# EAGLE library part 6-POS-SCREW-TERM-PT-3.5MM (library myhvac)
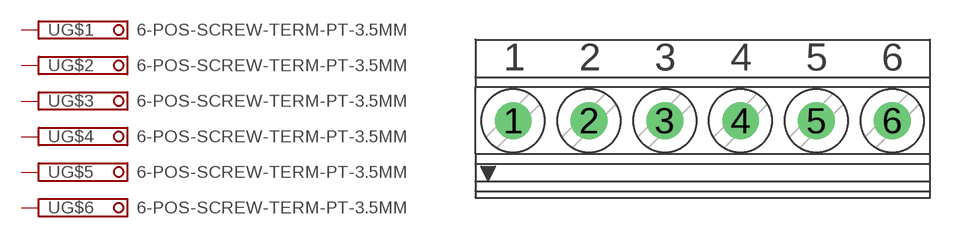
[diagram p6: symbol with the pads of 6-POS-SCREW-TERM-PT-3.5MM; footprint 6-POS-SCREW-TERM-PT-3.5MM]

Designator prefix -; gates G$1=SCHRAUBKLEMME G$2=SCHRAUBKLEMME G$3=SCHRAUBKLEMME G$4=SCHRAUBKLEMME G$5=SCHRAUBKLEMME G$6=SCHRAUBKLEMME

## 6-POS-SCREW-TERM-PT-3.5MM  [6-POS-SCREW-TERM-PT-3.5MM]
1  G$1:K  pas
2  G$2:K  pas
3  G$3:K  pas
4  G$4:K  pas
5  G$5:K  pas
6  G$6:K  pas

## Footprint 6-POS-SCREW-TERM-PT-3.5MM (pad centres in mm)
MKDS 1/ 7-3,5 Printklemme Nennstrom: 10 A Bemessungsspannung: 160 V Raster: 3,5 mm Polzahl: 7 Montageart: Löten Anschlussart: Schraubanschluss Anschlussrichtung vom Leiter zur Platine: 0° Source: http://eshop.phoenixcontact.com .. 1751293.pdf
drill 1.1 pad 1.7: 1 -10.5,-0.1; 2 -7,-0.1; 3 -3.5,-0.1; 4 0,-0.1; 5 3.5,-0.1; 6 7,-0.1